# EAGLE library part BMP388 (library My_Library)
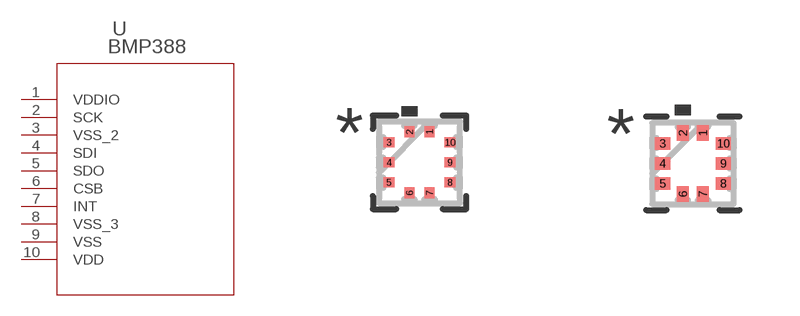
[diagram p6: symbol with the pads of QFN_BMP388_BOS; footprints QFN_BMP388_BOS, QFN_BMP388_BOS-M]

Designator prefix U

## BMP388 (COPYRIGHT: Copyright (C) 2024 Ultra Librarian. All rights reserved.; MANUFACTURER_PART_NUMBER: BMP388; MFR_NAME: Bosch Sensortec)  [QFN_BMP388_BOS]
1  VDDIO  pwr
2  SCK  pas
3  VSS_2  pas
4  SDI  pas
5  SDO  pas
6  CSB  pas
7  INT  pas
8  VSS_3  pas
9  VSS  pas
10  VDD  pwr

## BMP388QFN_BMP388_BOS-M (COPYRIGHT: Copyright (C) 2024 Ultra Librarian. All rights reserved.; MANUFACTURER_PART_NUMBER: BMP388; MFR_NAME: Bosch Sensortec)  [QFN_BMP388_BOS-M]
Pads as for QFN_BMP388_BOS

## BMP388QFN_BMP388_BOS-L (COPYRIGHT: Copyright (C) 2024 Ultra Librarian. All rights reserved.; MANUFACTURER_PART_NUMBER: BMP388; MFR_NAME: Bosch Sensortec)  [QFN_BMP388_BOS-L]
Pads as for QFN_BMP388_BOS

## Footprint QFN_BMP388_BOS (pad centres in mm)
smd 0.254 x 0.279: 1 0.25,0.762; 2 -0.25,0.762; 6 -0.25,-0.762; 7 0.25,-0.762
smd 0.279 x 0.254: 3 -0.762,0.5; 4 -0.762,0; 5 -0.762,-0.5; 8 0.762,-0.5; 9 0.762,0; 10 0.762,0.5

## Footprint QFN_BMP388_BOS-M (pad centres in mm)
smd 0.305 x 0.381: 1 0.25,0.762; 2 -0.25,0.762; 6 -0.25,-0.762; 7 0.25,-0.762
smd 0.381 x 0.305: 3 -0.762,0.5; 4 -0.762,0; 5 -0.762,-0.5; 8 0.762,-0.5; 9 0.762,0; 10 0.762,0.5

## Footprint QFN_BMP388_BOS-L (pad centres in mm)
smd 0.203 x 0.178: 1 0.25,0.762; 2 -0.25,0.762; 6 -0.25,-0.762; 7 0.25,-0.762
smd 0.178 x 0.203: 3 -0.762,0.5; 4 -0.762,0; 5 -0.762,-0.5; 8 0.762,-0.5; 9 0.762,0; 10 0.762,0.5